# Altium footprint library PCB - LEADLESS - DFN - TI 3-XFDFN F4 YJC.PCBLIB: 1 footprints
Each footprint in its own frame and in the unit in brackets; x right, y up, seen from the top. Pads: shape width x height; smd on the part's side, far side on the other; paste and mask are expansions set on the pad; w line width, h text height; cw(c..) or ccw(c..) is an arc to the next point about the centre after c.
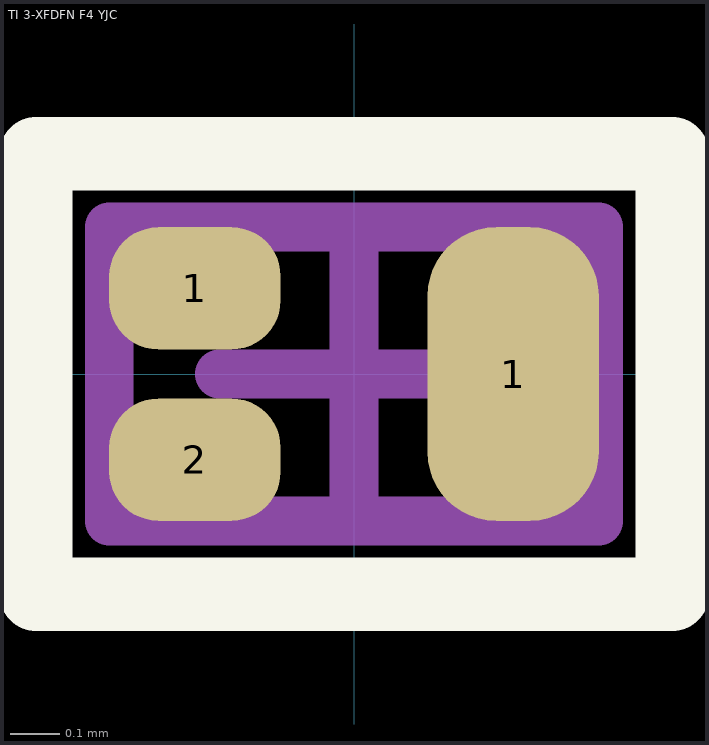
[diagram p0: the footprint, top view; thin cyan lines are the x and y axes]

## TI 3-XFDFN F4 YJC [mm] "PICOSTAR F4(YJC), 3-Leads, Body 1.00x.0.60mm, Pitch 0.175mm, IPC Medium Density"
height 0.35
pads (3):
  rrect80% 0.35x0.25 smd paste-0.5 mask-0.05: 1(-0.325,0.175) 2(-0.325,-0.175)
  rrect80% 0.35x0.6 smd paste-0.05 mask-0.05: 1(0.325,0)
Top Overlay:
  lines w0.15: -0.65,-0.45 0.65,-0.45 0.65,0.45 -0.65,0.45 -0.65,-0.45
Top Paste:
  region: -0.4,0.1 -0.41,0.1 -0.428,0.108 -0.442,0.122 -0.45,0.14 -0.45,0.15 -0.45,0.25 -0.45,0.26 -0.442,0.278 -0.428,0.292 -0.41,0.3 -0.4,0.3 -0.25,0.3 -0.24,0.3 -0.222,0.292 -0.208,0.278 -0.2,0.26 -0.2,0.25 -0.2,0.15 -0.2,0.14 -0.208,0.122 -0.222,0.108 -0.24,0.1 -0.25,0.1
  region: -0.4,-0.1 -0.41,-0.1 -0.428,-0.108 -0.442,-0.122 -0.45,-0.14 -0.45,-0.15 -0.45,-0.25 -0.45,-0.26 -0.442,-0.278 -0.428,-0.292 -0.41,-0.3 -0.4,-0.3 -0.25,-0.3 -0.24,-0.3 -0.222,-0.292 -0.208,-0.278 -0.2,-0.26 -0.2,-0.25 -0.2,-0.15 -0.2,-0.14 -0.208,-0.122 -0.222,-0.108 -0.24,-0.1 -0.25,-0.1
Mechanical 13:
  lines w0.1: -0.5,-0.3 0.5,-0.3 0.5,0.3 -0.5,0.3 -0.5,-0.3
Mechanical 15:
  lines w0.05: -0.65,-0.45 0.65,-0.45 0.65,0.45 -0.65,0.45 -0.65,-0.45
  lines w0.1: -0.275,0 0.275,0 ; 0,-0.275 0,0.275
3D body: height 0.35, standoff 0, extent -0.5,-0.3 0.5,0.3